# EAGLE library part NAU8814 (library mastrogippo)
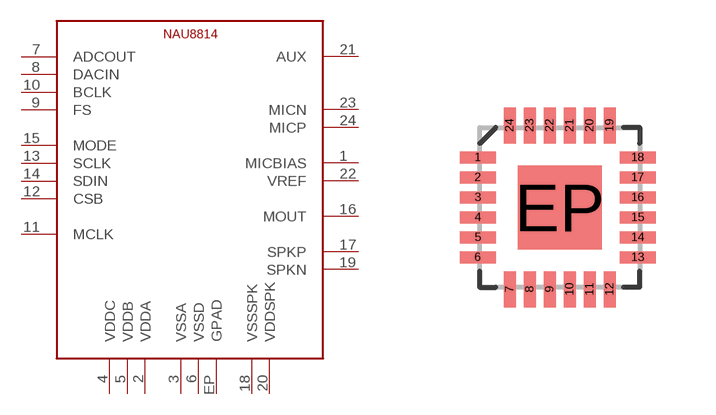
[diagram p40: symbol with the pads of QFN-24_ALT2; footprint QFN-24_ALT2]

Designator prefix -

## NAU8814  [QFN-24_ALT2]
1  MICBIAS
2  VDDA
3  VSSA
4  VDDC
5  VDDB
6  VSSD
7  ADCOUT
8  DACIN
9  FS
10  BCLK
11  MCLK
12  CSB
13  SCLK
14  SDIN
15  MODE
16  MOUT
17  SPKP
18  VSSSPK
19  SPKN
20  VDDSPK
21  AUX
22  VREF
23  MICN
24  MICP
EP  GPAD

## Footprint QFN-24_ALT2 (pad centres in mm)
24-pin QFN with Exposed Thermal pad Parts that use this package: A6282 Last modified: 8/20/10 ***UNPROVEN***
smd 0.9 x 0.3: 1 -2.05,1.25; 2 -2.05,0.75; 3 -2.05,0.25; 4 -2.05,-0.25; 5 -2.05,-0.75; 6 -2.05,-1.25; 13 1.95,-1.25; 14 1.95,-0.75; 15 1.95,-0.25; 16 1.95,0.25; 17 1.95,0.75; 18 1.95,1.25
smd 0.3 x 0.9: 7 -1.25,-2.05; 8 -0.75,-2.05; 9 -0.25,-2.05; 10 0.25,-2.05; 11 0.75,-2.05; 12 1.25,-2.05; 19 1.25,2.05; 20 0.75,2.05; 21 0.25,2.05; 22 -0.25,2.05; 23 -0.75,2.05; 24 -1.25,2.05
smd 2.1 x 2.1: EP 0,0